# EAGLE library part AD8544 (library my_devices)
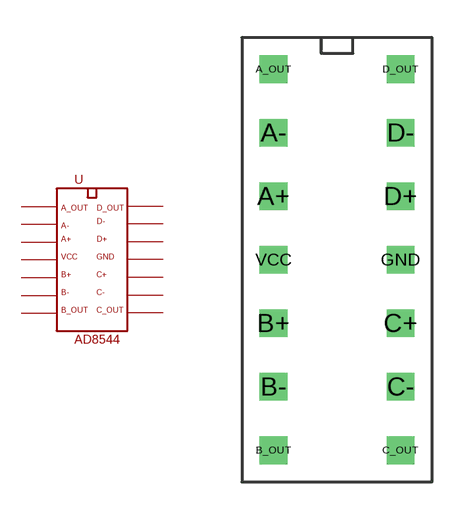
[diagram p12: symbol with the pads of AD8544; footprint AD8544]

Designator prefix U

## AD8544  [AD8544]
A+  A+
A-  A-
A_OUT  A_OUT
B+  B+
B-  B-
B_OUT  B_OUT
C+  C+
C-  C-
C_OUT  C_OUT
D+  D+
D-  D-
D_OUT  D_OUT
GND  GND  pwr
VCC  VCC  pwr

## Footprint AD8544 (pad centres in mm)
drill 0.6 square: A+ -2.54,2.54; A- -2.54,5.08; A_OUT -2.54,7.62; B+ -2.54,-2.54; B- -2.54,-5.08; B_OUT -2.54,-7.62; C+ 2.54,-2.54; C- 2.54,-5.08; C_OUT 2.54,-7.62; D+ 2.54,2.54; D- 2.54,5.08; D_OUT 2.54,7.62; GND 2.54,0; VCC -2.54,0